# Altium footprint library WLCSP$49N0.50P7X7_3.8X3.9X0.6-49_49.PcbLib: 1 footprints
Each footprint in its own frame and in the unit in brackets; x right, y up, seen from the top. Pads: shape width x height; smd on the part's side, far side on the other; paste and mask are expansions set on the pad; w line width, h text height; cw(c..) or ccw(c..) is an arc to the next point about the centre after c.
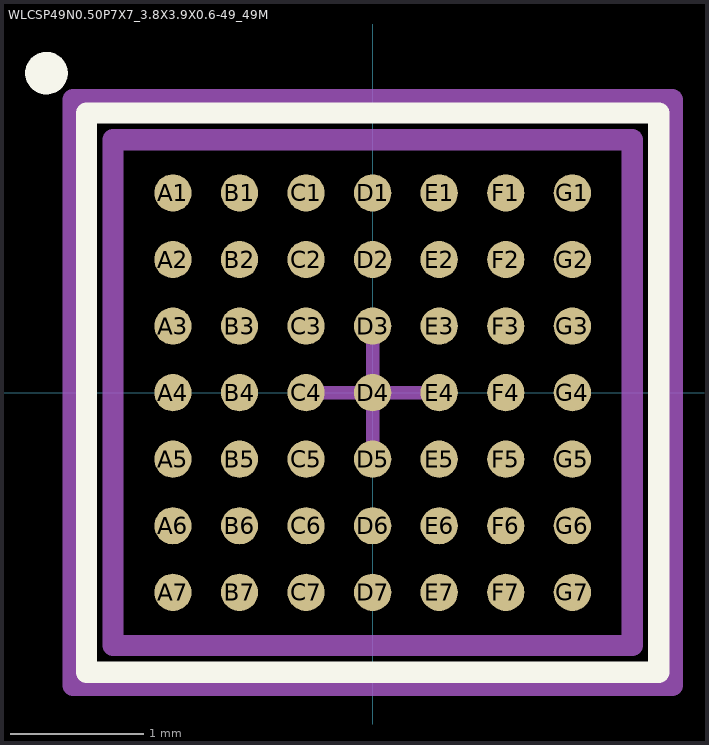
[diagram p0: the footprint, top view; thin cyan lines are the x and y axes]

## WLCSP49N0.50P7X7_3.8X3.9X0.6-49_49M [mm] "WLCSP 49 3.9x3.8x0.6 P 0.5 mm"
height 0.6
pads (49):
  round 0.28 smd: A1(-1.5,1.5) A2(-1.5,1) A3(-1.5,0.5) A4(-1.5,0) A5(-1.5,-0.5) A6(-1.5,-1) A7(-1.5,-1.5) B1(-1,1.5) B2(-1,1) B3(-1,0.5) B4(-1,0) B5(-1,-0.5) B6(-1,-1) B7(-1,-1.5) C1(-0.5,1.5) C2(-0.5,1) C3(-0.5,0.5) C4(-0.5,0) C5(-0.5,-0.5) C6(-0.5,-1) C7(-0.5,-1.5) D1(0,1.5) D2(0,1) D3(0,0.5) D4(0,0) D5(0,-0.5) D6(0,-1) D7(0,-1.5) E1(0.5,1.5) E2(0.5,1) E3(0.5,0.5) E4(0.5,0) E5(0.5,-0.5) E6(0.5,-1) E7(0.5,-1.5) F1(1,1.5) F2(1,1) F3(1,0.5) F4(1,0) F5(1,-0.5) F6(1,-1) F7(1,-1.5) G1(1.5,1.5) G2(1.5,1) G3(1.5,0.5) G4(1.5,0) G5(1.5,-0.5) G6(1.5,-1) G7(1.5,-1.5)
Top Overlay:
  circle w0.16: c-2.45,2.4 r0.08
  lines w0.16: -2.15,-2.1 2.15,-2.1 2.15,2.1 -2.15,2.1 -2.15,-2.1
Top Component Center:
  lines w0.1: -0.475,0 0.475,0 ; 0,-0.475 0,0.475
Top Courtyard:
  lines w0.16: -2.25,-2.2 2.25,-2.2 2.25,2.2 -2.25,2.2 -2.25,-2.2
Top Assembly:
  lines w0.16: -1.95,-1.9 1.95,-1.9 1.95,1.9 -1.95,1.9 -1.95,-1.9
3D body "WLCSP49N0.50P7X7_3.8X3.9X0.6-49_49M.STEP": height 0.6, standoff 0, extent -1.95,-1.9 1.95,1.9